# Altium footprint library MAGNETICS.PcbLib: 20 footprints (part 2 of 2)
Each footprint in its own frame and in the unit in brackets; x right, y up, seen from the top. Pads: shape width x height; smd on the part's side, far side on the other; paste and mask are expansions set on the pad; w line width, h text height; cw(c..) or ccw(c..) is an arc to the next point about the centre after c.
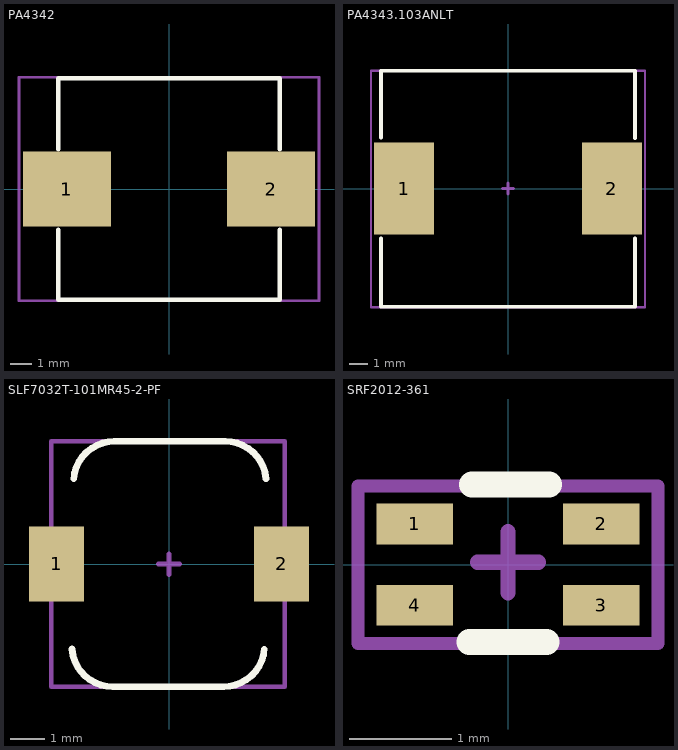
[diagram p1: the footprints below, top view; thin cyan lines are the x and y axes]

## PA4342 [mm]
pads (2):
  rect 4.1x3.5 smd: 1(-4.75,0) 2(4.75,0)
Top Overlay:
  lines w0.2: -5.15,-1.9 -5.15,-5.15 5.15,-5.15 5.15,-1.9 ; -5.15,1.85 -5.15,5.15 5.15,5.15 5.15,1.85
Top Assembly:
  lines w0.127: -6.975,-5.2 6.975,-5.2 6.975,5.2 -6.975,5.2 -6.975,-5.2
  text ".Designator" at -1.15,-0.475 h1.5
3D body "PA4342_XXXNLT.step": height 4, standoff 0, extent -5.75,-5.15 5.75,5.15

## PA4343.103ANLT [mm]
pads (2):
  rect 3.25x5 smd: 1(-5.625,0) 2(5.625,0)
Top Overlay:
  lines w0.2: -6.875,-2.7 -6.875,-6.4 6.875,-6.4 6.875,-2.7 ; -6.875,2.75 -6.875,6.375 6.875,6.375 6.875,2.725
Top Assembly:
  lines w0.127: -7.425,-6.425 -7.425,6.375 7.425,6.375 7.425,-6.425 -7.425,-6.425
  text ".Designator" at -2.3,-0.3 h0.7
Top Component Center:
  lines w0.15: -0.3,-0.002 0.3,-0.002 ; 0,-0.302 0,0.298
3D body: height 1, standoff 0, extent 4.9,-2 7.2,2
3D body: height 6.2, standoff 0, extent -6.737,-6.3 6.737,6.3
3D body: height 1, standoff 0, extent -7.2,-2 -4.9,2

## SLF7032T-101MR45-2-PF [mm]
height 3.2
pads (2):
  rect 1.6x2.2 smd: 1(-3.3,0.003) 2(3.3,0.003)
Top Overlay:
  lines w0.2: -2.846,-2.496 ccw(c-1.65,-2.4) -1.65,-3.6 1.6,-3.6 ccw(c1.6,-2.4) 2.796,-2.5 ; -2.796,2.5 cw(c-1.6,2.4) -1.6,3.6 1.65,3.6 cw(c1.65,2.4) 2.846,2.5
Top Assembly:
  lines w0.127: -3.45,-3.6 3.4,-3.6 3.4,3.6 -3.45,3.6 -3.45,-3.6
  text ".Designator" at -1.2,-0.175 h0.5
Top Component Center:
  lines w0.15: -0.3,-0.002 0.3,-0.002 ; 0,-0.302 0,0.298
3D body: height 3.2, standoff 0, extent -3.5,-3.497 3.5,3.497
3D body: height 0.9, standoff 0, extent -3.5,-3.497 3.5,3.497

## SRF2012-361 [mm]
height 3
pads (4):
  rect 0.75x0.4 smd: 1(-0.916,0.4) 2(0.916,0.4) 3(0.916,-0.4) 4(-0.916,-0.4)
Top Overlay:
  lines w0.254: -0.381,-0.762 0.381,-0.762 ; -0.356,0.787 0.406,0.787
Top Assembly:
  lines w0.127: -1.475,-0.775 1.475,-0.775 1.475,0.775 -1.475,0.775 -1.475,-0.775
  text ".Designator" at -1,-0.1 h0.4
Top Component Center:
  lines w0.15: -0.3,0.023 0.3,0.023 ; 0,-0.277 0,0.323
3D body: height 1.2, standoff 0, extent -1.001,-0.6 1.001,0.6
3D body: height 0.15, standoff 0, extent -1.024,-0.625 -0.474,-0.175
3D body: height 0.15, standoff 0, extent -1.024,0.175 -0.474,0.625
3D body: height 0.15, standoff 0, extent 0.476,0.175 1.026,0.625
3D body: height 0.15, standoff 0, extent 0.476,-0.625 1.026,-0.175